# Altium footprint library SOP65P640X120-20N.PcbLib: 1 footprints
Each footprint in its own frame and in the unit in brackets; x right, y up, seen from the top. Pads: shape width x height; smd on the part's side, far side on the other; paste and mask are expansions set on the pad; w line width, h text height; cw(c..) or ccw(c..) is an arc to the next point about the centre after c.
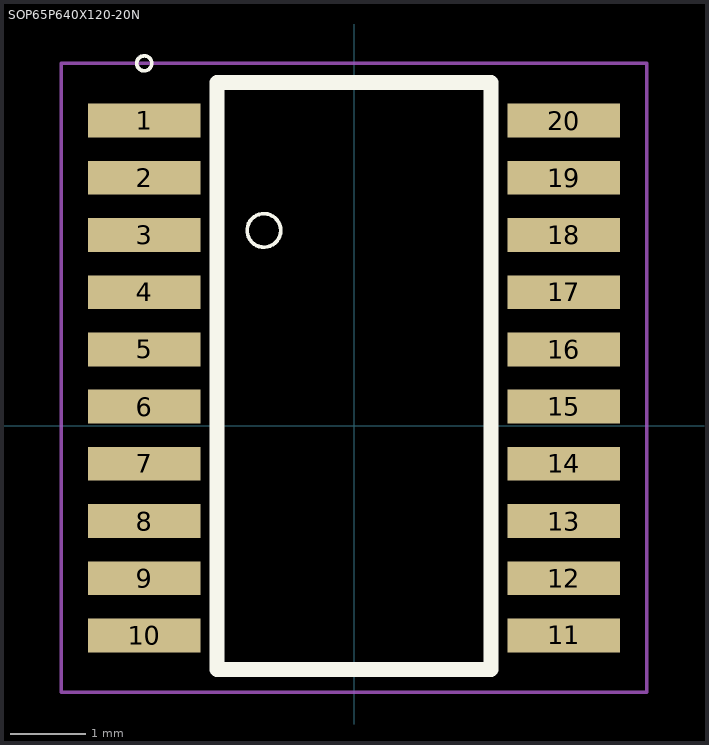
[diagram p0: the footprint, top view; thin cyan lines are the x and y axes]

## SOP65P640X120-20N [mm]
pads (20):
  rect 1.5x0.45 smd: 1(-2.794,4.064) 2(-2.794,3.302) 3(-2.794,2.54) 4(-2.794,1.778) 5(-2.794,1.016) 6(-2.794,0.254) 7(-2.794,-0.508) 8(-2.794,-1.27) 9(-2.794,-2.032) 10(-2.794,-2.794) 11(2.794,-2.794) 12(2.794,-2.032) 13(2.794,-1.27) 14(2.794,-0.508) 15(2.794,0.254) 16(2.794,1.016) 17(2.794,1.778) 18(2.794,2.54) 19(2.794,3.302) 20(2.794,4.064)
Top Overlay:
  circle w0.05: c-2.794,4.826 r0.1
  circle w0.05: c-1.2,2.6 r0.224
  circle w0.05: c-1.2,2.6 r0.224
  lines w0.2: -1.825,-3.25 -1.825,4.572 1.825,4.572 1.825,-3.25 -1.825,-3.25
Mechanical 15:
  lines w0.05: -3.9,-3.55 3.9,-3.55 3.9,4.826 0.21,4.826 -0.21,4.826 -3.9,4.826 -3.9,-3.55
3D body: height 0.25, standoff 0, extent -3.2,-3.25 3.2,4.572